# EAGLE library part IRF7828 (library open-bldc)
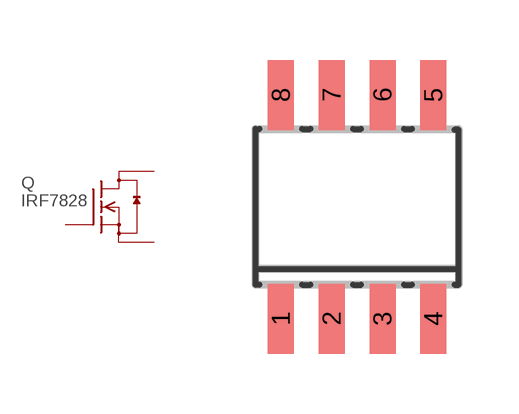
[diagram p15: symbol with the pads of SO8; footprint SO8]

Designator prefix Q

## IRF7828  [SO8]
1  S3  pas
2  S2  pas
3  S1  pas
4  G  pas
5  D1  pas
6  D2  pas
7  D3  pas
8  D4  pas

## Footprint SO8 (pad centres in mm)
Complient to the IPC7351 standard (SOIC127P600X175-8M)
smd 0.65 x 1.75: 1 -1.905,-2.8; 2 -0.635,-2.8; 3 0.635,-2.8; 4 1.905,-2.8; 5 1.905,2.8; 6 0.635,2.8; 7 -0.635,2.8; 8 -1.905,2.8